# EAGLE library part AT86RF212 (library microbuilder)
AT86RF212 - Low-Power SPI-based 700/800/900 MHz Transceiver Digikey: AT86RF212-ZU-ND
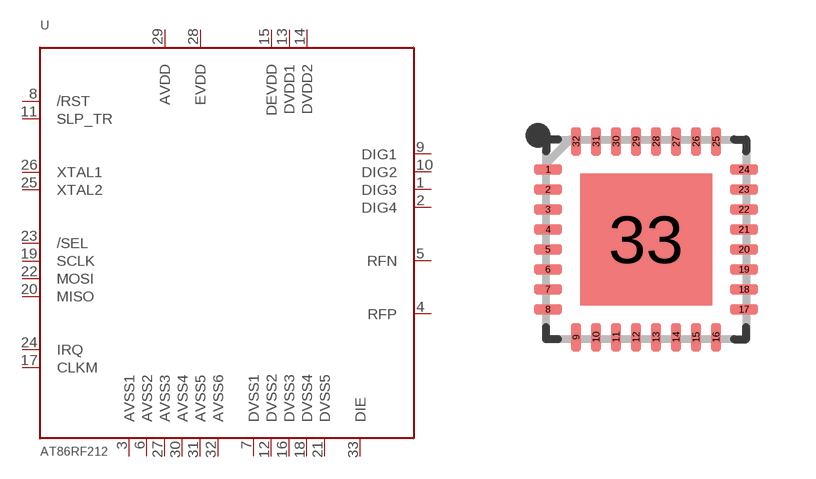
[diagram p45: symbol with the pads of 32QN2; footprint 32QN2]

Designator prefix U

## AT86RF212 (PARTNO: AT86RF212-ZU)  [32QN2]
1  DIG3
2  DIG4
3  AVSS1
4  RFP
5  RFN
6  AVSS2
7  DVSS1
8  /RST
9  DIG1
10  DIG2
11  SLP_TR
12  DVSS2
13  DVDD1
14  DVDD2
15  DEVDD
16  DVSS3
17  CLKM
18  DVSS4
19  SCLK
20  MISO
21  DVSS5
22  MOSI
23  /SEL
24  IRQ
25  XTAL2
26  XTAL1
27  AVSS3
28  EVDD
29  AVDD
30  AVSS4
31  AVSS5
32  AVSS6
33  DIE

## Footprint 32QN2 (pad centres in mm)
32QN2, 32-lead 5.0 x 5.0mm Body, 0.50mm Pitch, Quad Flat No Lead Package (QFN) Sawn
smd 0.7 x 0.25: 1 -2.45,1.75; 2 -2.45,1.25; 3 -2.45,0.75; 4 -2.45,0.25; 5 -2.45,-0.25; 6 -2.45,-0.75; 7 -2.45,-1.25; 8 -2.45,-1.75; 17 2.45,-1.75; 18 2.45,-1.25; 19 2.45,-0.75; 20 2.45,-0.25; 21 2.45,0.25; 22 2.45,0.75; 23 2.45,1.25; 24 2.45,1.75
smd 0.25 x 0.7: 9 -1.75,-2.45; 10 -1.25,-2.45; 11 -0.75,-2.45; 12 -0.25,-2.45; 13 0.25,-2.45; 14 0.75,-2.45; 15 1.25,-2.45; 16 1.75,-2.45; 25 1.75,2.45; 26 1.25,2.45; 27 0.75,2.45; 28 0.25,2.45; 29 -0.25,2.45; 30 -0.75,2.45; 31 -1.25,2.45; 32 -1.75,2.45
smd 3.3 x 3.3: 33 0,0